# Altium footprint library Sensor.PcbLib: 6 footprints
Each footprint in its own frame and in the unit in brackets; x right, y up, seen from the top. Pads: shape width x height; smd on the part's side, far side on the other; paste and mask are expansions set on the pad; w line width, h text height; cw(c..) or ccw(c..) is an arc to the next point about the centre after c.
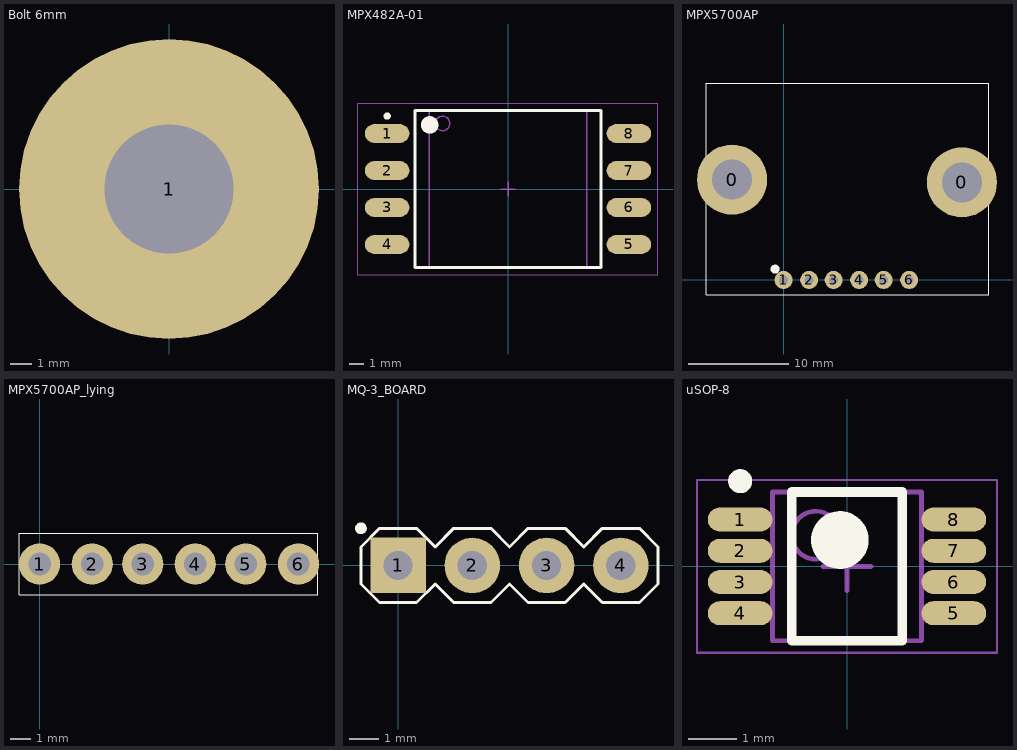
[diagram p0: the footprints below, top view; thin cyan lines are the x and y axes]

## Bolt 6mm [mm]
height 30
pads (1):
  round 14 hole 6: 1(0,0)
3D body "шайба.stp": height 2, standoff 0.4, extent -5.456,-5.489 5.5,5.489
3D body "Болт.stp": height 28, standoff -10, extent -7.937,-7.984 8,7.984
3D body "шайба.stp": height -0.7, standoff -2.3, extent -5.456,-5.489 5.5,5.489
3D body "гайка.stp": height 7, standoff 2, extent -5.5,-6.351 5.5,6.351
3D body "гайка.stp": height -2, standoff -7, extent -5.5,-6.351 5.5,6.351

## MPX482A-01 [mm] "SOP, 8-Leads, Body 10,66x10,66mm, Pitch 2,54mm, IPC Low Density"
height 13.21
pads (8):
  oval 3.05x1.3 smd: 1(-8.3,3.81) 2(-8.3,1.27) 3(-8.3,-1.27) 4(-8.3,-3.81) 5(8.3,-3.81) 6(8.3,-1.27) 7(8.3,1.27) 8(8.3,3.81)
Top Overlay:
  circle w0.6: c-5.375,4.4 r0.3
  circle w0.25: c-8.3,5.01 r0.125
  lines w0.2: -6.375,-5.4 6.375,-5.4 6.375,5.4 -6.375,5.4 -6.375,-5.4
Mechanical 13:
  circle w0.1: c-4.5,4.5 r0.5
  lines w0.1: -5.4,-5.4 5.4,-5.4 5.4,5.4 -5.4,5.4 -5.4,-5.4
Mechanical 15:
  lines w0.05: -10.3,-5.9 10.3,-5.9 10.3,5.9 -10.3,5.9 -10.3,-5.9
  lines w0.1: -0.5,0 0.5,0 ; 0,-0.5 0,0.5
3D body: height 13.21, standoff 0.1, extent -5.4,-5.4 5.4,5.4

## MPX5700AP [mm]
pads (8):
  round 7 hole 4: 0(-5.15,10.025) 0(17.825,9.75)
  round 1.8 hole 0.9: 1(0,0) 2(2.55,0) 3(5,0) 4(7.55,0) 5(10,0) 6(12.55,0)
Top Overlay:
  circle w0.5: c-0.85,1.075 r0.2
  lines w0.05: -7.75,-1.5 -7.75,19.675 20.5,19.675 20.5,-1.5 -7.75,-1.5
3D body: height 5.1, standoff 5, extent -0.437,-0.037 0.438,3.963
3D body: height 5.1, standoff 5, extent 2.113,-0.037 2.988,3.963
3D body: height 5.1, standoff 5, extent 7.113,-0.037 7.988,3.963
3D body: height 5.1, standoff 5, extent 4.563,-0.037 5.438,3.963
3D body: height 5.1, standoff 5, extent 9.563,-0.037 10.438,3.963
3D body: height 5.1, standoff 5, extent 12.113,-0.037 12.988,3.963
3D body: height 8, standoff 0, extent -2.483,1 14.483,17.933
3D body: height 4, standoff 0, extent 0.016,7 4,27
3D body: height 5, standoff 0, extent 12.113,-0.037 12.988,0.038
3D body: height 5, standoff 0, extent 9.563,-0.037 10.438,0.038
3D body: height 5, standoff 0, extent 4.563,-0.037 5.438,0.038
3D body: height 5, standoff 0, extent 7.113,-0.037 7.988,0.038
3D body: height 5, standoff 0, extent 2.113,-0.037 2.988,0.038
3D body: height 5, standoff 0, extent -0.437,-0.037 0.438,0.038

## MPX5700AP_lying [mm]
pads (6):
  round 2 hole 1.1: 1(0,0) 2(2.55,0) 3(5,0) 4(7.55,0) 5(10,0) 6(12.55,0)
Top Overlay:
  lines w0.05: -1,-1.5 13.5,-1.5 13.5,1.5 -1,1.5 -1,-1.5
3D body "MPX5700AP.step": height 33.3, standoff -5.42, extent -8.65,-5.65 21.2,2.61

## MQ-3_BOARD [mm]
height 40
pads (4):
  rect 1.9x1.9 hole 1: 1(0,0)
  round 1.9 hole 1: 2(2.54,0) 3(5.08,0) 4(7.62,0)
Top Overlay:
  circle w0.2: c-1.27,1.27 r0.1
  lines w0.1: -1.27,-0.635 -1.27,0.635 -0.635,1.27 0.635,1.27 1.27,0.635 1.905,1.27 3.175,1.27 3.81,0.635 4.445,1.27 5.715,1.27 6.35,0.635 6.985,1.27 8.255,1.27 8.89,0.635 8.89,-0.635 8.255,-1.27 6.985,-1.27 6.35,-0.635 5.715,-1.27 4.445,-1.27 3.81,-0.635 3.175,-1.27 1.905,-1.27 1.27,-0.635 0.635,-1.27 -0.635,-1.27 -1.27,-0.635
3D body "PLS-02.stp": height 8.6, standoff -2.9, extent 3.81,-1.25 8.891,1.25
3D body "PLS-02.stp": height 8.6, standoff -2.9, extent -1.27,-1.25 3.811,1.25

## uSOP-8 [mm] "uSOP, 8-Leads, Body 3,00x3,00mm, Pitch 0,65mm, IPC Medium Density"
height 1.1
pads (8):
  oval 1.35x0.5 smd: 1(-2.225,0.975) 2(-2.225,0.325) 3(-2.225,-0.325) 4(-2.225,-0.975) 5(2.225,-0.975) 6(2.225,-0.325) 7(2.225,0.325) 8(2.225,0.975)
Top Overlay:
  circle w0.6: c-0.15,0.55 r0.3
  circle w0.25: c-2.225,1.775 r0.125
  lines w0.2: -1.15,-1.55 1.15,-1.55 1.15,1.55 -1.15,1.55 -1.15,-1.55
Mechanical 13:
  circle w0.1: c-0.65,0.65 r0.5
  lines w0.1: -1.55,-1.55 1.55,-1.55 1.55,1.55 -1.55,1.55 -1.55,-1.55
Mechanical 15:
  lines w0.05: -3.125,-1.8 3.125,-1.8 3.125,1.8 -3.125,1.8 -3.125,-1.8
  lines w0.1: -0.5,0 0.5,0 ; 0,-0.5 0,0.5
3D body "uSOP-8.step": height 1.1, standoff 0, extent -2.452,-1.55 2.452,1.55